# Altium integrated library Unified ASICs.IntLib: 3 symbols
Pins are listed as number, name and electrical type; pins without a type are passive.

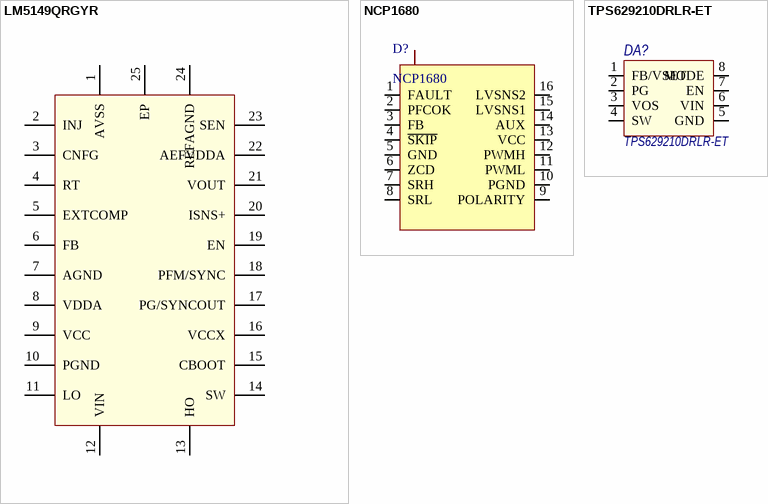
[diagram p0: symbols LM5149QRGYR to TPS629210DRLR-ET]

## LM5149QRGYR
designator DD?  (value not drawn)
Value: 80В; ID: LM5149QRGYR
footprint QFN-24RQY (QFN, 24-Leads, Body 3,50x5,95mm, Pitch 1,50mm/0,50mm, Thermal Pad 2,05x4,05mm, IPC Medium Density)
pins: 1 AVSS, 2 INJ, 3 CNFG, 4 RT, 5 EXTCOMP, 6 FB, 7 AGND, 8 VDDA, 9 VCC, 10 PGND, 11 LO, 12 VIN, 13 HO, 14 SW, 15 CBOOT, 16 VCCX, 17 PG/SYNCOUT, 18 PFM/SYNC, 19 EN, 20 ISNS+, 21 VOUT, 22 AEFVDDA, 23 SEN, 24 REFAGND, 25 EP

## NCP1680
designator D?
CrM PFC controller IC designed to drive the bridgeless totem-pole PFC topology
footprint SOIC-16
pins: 1 FAULT, 2 PFCOK, 3 FB, 4 ~{SKIP}, 5 GND, 6 ZCD, 7 SRH, 8 SRL, 9 POLARITY, 10 PGND, 11 PWML, 12 PWMH, 13 VCC, 14 AUX, 15 LVSNS1, 16 LVSNS2

## TPS629210DRLR-ET
designator DA?
Понижающий преобразователь постоянного тока; Parameter 1: *
footprint TSSOP50P160X60-8N (TSSOP, 8-Leads, Body 2,10x1,20mm, Pitch 0,50mm, IPC Medium Density)
pins: 1 FB/VSET, 2 PG, 3 VOS, 4 SW, 5 GND, 6 VIN, 7 EN, 8 MODE